# EAGLE library part AS-ITM-00223 (library tinycircuits)
IC USB SERIAL FULL UART 20QFN
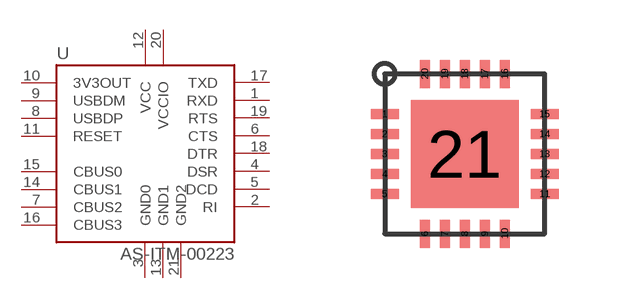
[diagram p94: symbol with the pads of QFN20; footprint QFN20]

Designator prefix U

## AS-ITM-00223 (PARTNO: AS-ITM-00223; PNPROTATION: 270; VALUE: FT231XQ-R)  [QFN20]
1  RXD
2  RI
3  GND0
4  DSR
5  DCD
6  CTS
7  CBUS2
8  USBDP
9  USBDM
10  3V3OUT
11  RESET
12  VCC
13  GND1
14  CBUS1
15  CBUS0
16  CBUS3
17  TXD
18  DTR
19  RTS
20  VCCIO
21  GND2

## Footprint QFN20 (pad centres in mm)
smd 0.7 x 0.25: 1 -2,1; 2 -2,0.5; 3 -2,0; 4 -2,-0.5; 5 -2,-1; 11 2,-1; 12 2,-0.5; 13 2,0; 14 2,0.5; 15 2,1
smd 0.25 x 0.7: 6 -1,-2; 7 -0.5,-2; 8 0,-2; 9 0.5,-2; 10 1,-2; 16 1,2; 17 0.5,2; 18 0,2; 19 -0.5,2; 20 -1,2
smd 2.7 x 2.7: 21 0,0